# Altium integrated library 0548190519.IntLib: 1 symbol
Pins are listed as number, name and electrical type; pins without a type are passive.

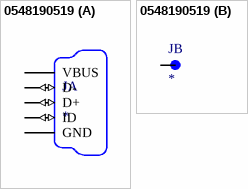
[diagram p0: symbol 0548190519]

## 0548190519
designator J
USB - mini B USB 2.0 OTG Receptacle Connector 5 Position Through Hole, Right Angle; MF: Molex; MP: 0548190519; Value: *; SnapEDA_Link: https://www.snapeda.com/parts/0548190519/Molex/view-part/512025/?ref=snap; Digi-Key_Part_Number: WM17115-ND; Package: None; Digi-Key_Purchase_URL: https://www.digikey.com/product-detail/en/molex/0548190519/WM17115-ND/773802?utm_source=snapeda&utm_medium=aggregator&utm_campaign=symbol
footprint MOLEX_0548190519
part A pins: 1 VBUS (power), 2 D- (io), 3 D+ (io), 4 ID (io), 5 GND (power), 6 VBUS (power), 7 D- (io), 8 D+ (io), 9 ID (io), 10 GND (power)
part B pins: 11 S1, 12 S1, S1, S2 S1